# EAGLE library part MPU_9250 (library MPU_9250_module)
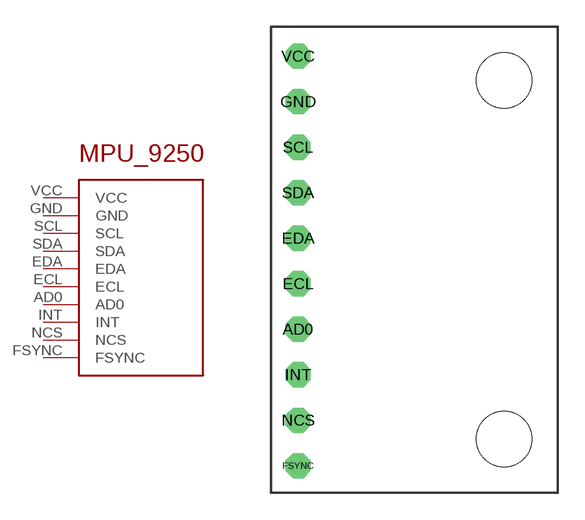
[diagram p0: symbol with the pads of MPU_9250; footprint MPU_9250]

Designator prefix -

## MPU_9250  [MPU_9250]
AD0  AD0
ECL  ECL
EDA  EDA
FSYNC  FSYNC
GND  GND
INT  INT
NCS  NCS
SCL  SCL
SDA  SDA
VCC  VCC

## Footprint MPU_9250 (pad centres in mm)
drill 0.9 octagon: AD0 1.5,9.12; ECL 1.5,11.66; EDA 1.5,14.2; FSYNC 1.5,1.5; GND 1.5,21.82; INT 1.5,6.58; NCS 1.5,4.04; SCL 1.5,19.28; SDA 1.5,16.74; VCC 1.5,24.36
hole 3.1 at 13,23
hole 3.1 at 13,3